# Altium schematic symbol library Header_1x4_M.SchLib: 1 symbol
Pins are listed as number, name and electrical type; pins without a type are passive.

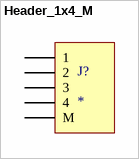
[diagram p0: symbol Header_1x4_M]

## Header_1x4_M
designator J?
pins: 1, 2, 3, 4, 5 M